# Altium footprint library QFN-16.PcbLib: 1 footprints
Each footprint in its own frame and in the unit in brackets; x right, y up, seen from the top. Pads: shape width x height; smd on the part's side, far side on the other; paste and mask are expansions set on the pad; w line width, h text height; cw(c..) or ccw(c..) is an arc to the next point about the centre after c.
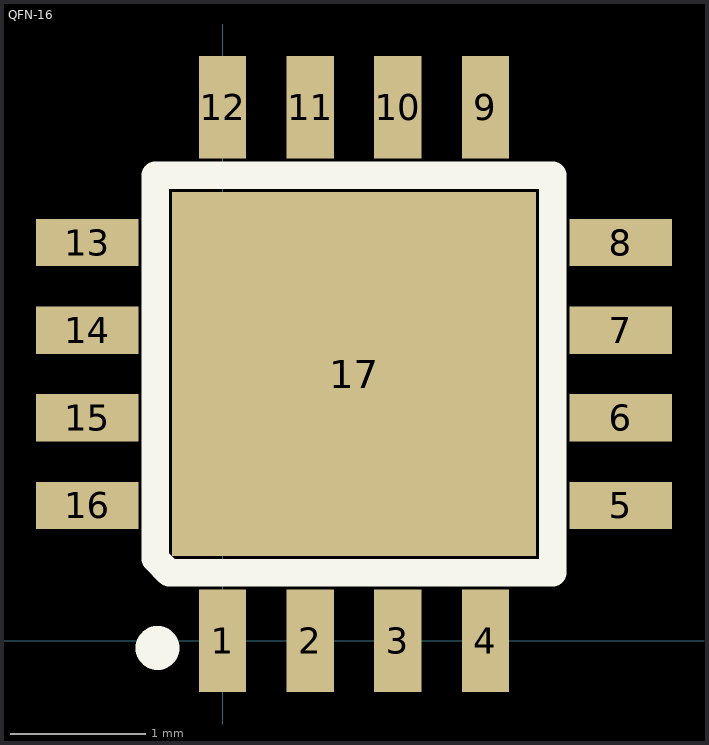
[diagram p0: the footprint, top view; thin cyan lines are the x and y axes]

## QFN-16 [mm]
height 1.016
pads (17):
  rect 0.35x0.76 smd: 1(0,0) 2(0.65,0) 3(1.3,0) 4(1.95,0) 9(1.95,3.96) 10(1.3,3.96) 11(0.65,3.96) 12(0,3.96)
  rect 0.76x0.35 smd: 5(2.955,1.005) 6(2.955,1.655) 7(2.955,2.305) 8(2.955,2.955) 13(-1.005,2.955) 14(-1.005,2.305) 15(-1.005,1.655) 16(-1.005,1.005)
  rect 2.7x2.7 smd: 17(0.975,1.98)
TopOverlay:
  circle w0.254: c-0.483,-0.052 r0.036
  lines w0.203: -0.498,0.61 -0.397,0.507 2.448,0.507 2.448,3.453 -0.498,3.453 -0.498,0.61